# Altium schematic symbol library Tibbo.SchLib: 1 symbol
Pins are listed as number, name and electrical type; pins without a type are passive.

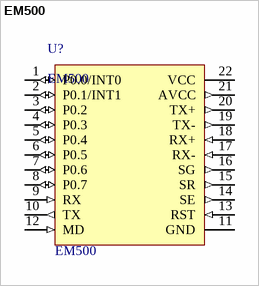
[diagram p0: symbol EM500]

## EM500
designator U?
EM500 BASIC-programmable Ethernet Module; Component: EM500
footprint EM500
pins: 1 P0.0/INT0 (io), 2 P0.1/INT1 (io), 3 P0.2 (io), 4 P0.3 (io), 5 P0.4 (io), 6 P0.5 (io), 7 P0.6 (io), 8 P0.7 (io), 9 RX (in), 10 TX (out), 11 GND (power), 12 MD (in), 13 RST (in), 14 SE (out), 15 SR (out), 16 SG (out), 17 RX- (in), 18 RX+ (in), 19 TX- (out), 20 TX+ (out), 21 AVCC (out), 22 VCC (power)